# Altium footprint library TPS82698SIPR.PcbLib: 1 footprints
Each footprint in its own frame and in the unit in brackets; x right, y up, seen from the top. Pads: shape width x height; smd on the part's side, far side on the other; paste and mask are expansions set on the pad; w line width, h text height; cw(c..) or ccw(c..) is an arc to the next point about the centre after c.
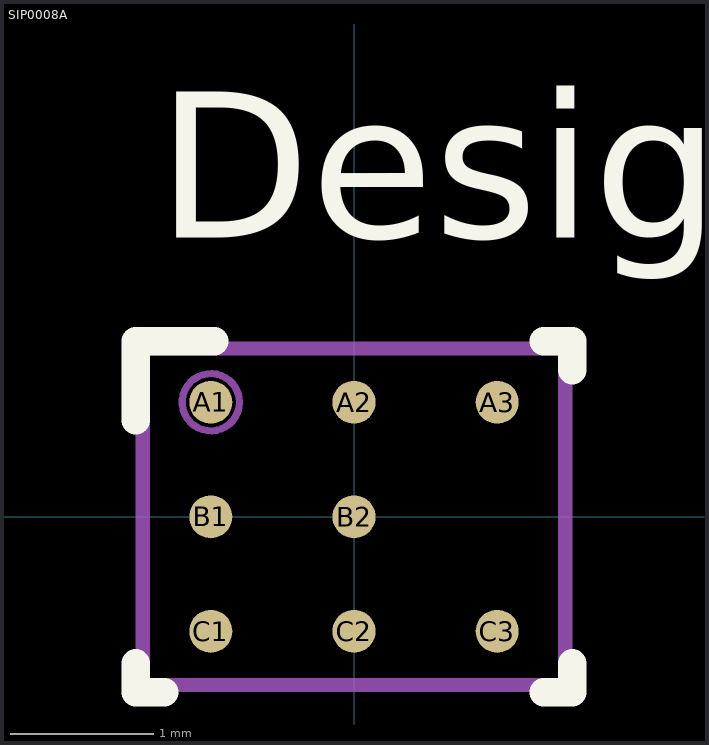
[diagram p0: the footprint, top view; thin cyan lines are the x and y axes]

## SIP0008A [mm]
pads (8):
  round 0.3 smd paste+0.02 mask+0.051: A1(-1,0.8) A2(0,0.8) A3(1,0.8) B1(-1,0) B2(0,0) C1(-1,-0.8) C2(0,-0.8) C3(1,-0.8)
Top Overlay:
  lines w0.2: -1.525,-1.025 -1.525,-1.225 -1.325,-1.225 ; -1.525,0.675 -1.525,1.225 -0.975,1.225 ; 1.325,-1.225 1.525,-1.225 1.525,-1.025 ; 1.325,1.225 1.525,1.225 1.525,1.025
  text "Designator388" at -1.378,1.949 h1.27
Mechanical 13:
  circle w0.05: c-1,0.8 r0.2
  lines w0.1: -1.475,-1.175 1.475,-1.175 1.475,1.175 -1.475,1.175 -1.475,-1.175